# Altium integrated library B3U-1000P.IntLib: 1 symbol
Pins are listed as number, name and electrical type; pins without a type are passive.

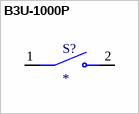
[diagram p0: symbol B3U-1000P]

## B3U-1000P
designator S?
Switch Tactile N.O. SPST Round Button Gull Wing 0.05A 12VDC 1.5N SMD Embossed T/R; MP: B3U-1000P; Package: None; Availability: Unavailable; Value: *; Price: None
footprint SW_B3U-1000P
pins: 1, 2